# Altium schematic symbol library SMBTA42.Schlib: 1 symbol
Pins are listed as number, name and electrical type; pins without a type are passive.

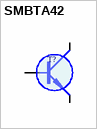
[diagram p0: symbol SMBTA42]

## SMBTA42
designator T?
SOT23  300V 0.5A 50MHz 3p(20V) (SMBTA92)
pins: 1 B, 2 E (oe), 3 C (oc)
1 alternate drawing of the same symbol